# EAGLE library part LTC1923EUH#PBF (library LTC1923EUH_PBF Cooler)
Check availability <https://pricing.snapeda.com/parts/LTC1923EUH%23PBF/Analog%20Devices/view-part?ref=eda>
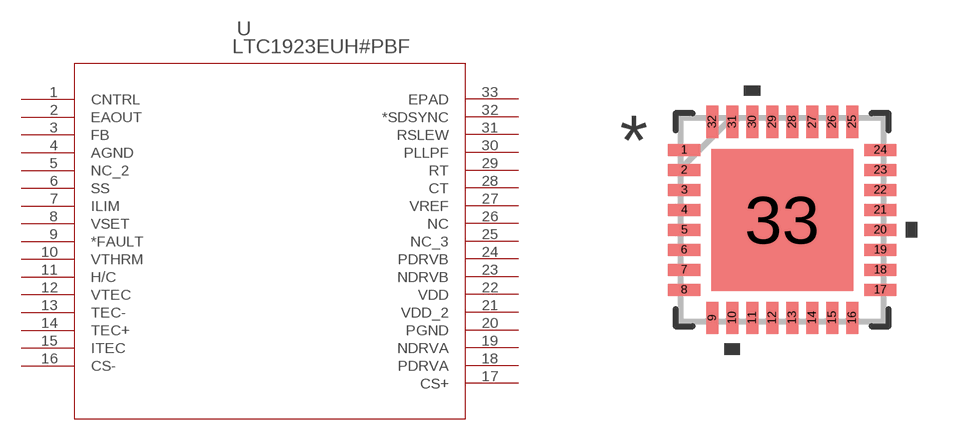
[diagram p0: symbol with the pads of QFN-32_UH; footprint QFN-32_UH]

Designator prefix U

## LTC1923EUH#PBF (Availability: In Stock; Check_prices: https://www.snapeda.com/parts/LTC1923EUH%23PBF/Analog+Devices/view-part/?ref=eda; Description: The LTC1923 is a pulse width modulator intended for thermoelectric cooler (TEC) or heater applications requiring either unidirectional or bidirectional drive circuits. All of the necessary control circuitry and two sets of complementary output drivers are integrated into the LTC1923 to drive a full bridge, providing an efficient means of bidirectional current flow to the TEC. An accurate temperature control loop to stabilize the temperature of a laser diode system is easily achieved with the addition of just a few external components. Typical temperature setpoint accuracy of 0.1°C is achievable with the LTC1923. Adding an instrumentation amplifier front end allows setpoint stability of 0.01°C. The part features independent adjustable heating and cooling pulse-by-pulse current limit, current soft-start for controlled start-up, output slew rate control to reduce system noise, differential current sense and voltage amplifiers and a host of auxiliary circuits to protect the laser and provide redundant system monitoring. Applications Laser-Based Fiber Optic Links Medical Instruments CPU Temperature Regulators; MF: Analog Devices; MP: LTC1923EUH#PBF; Package: WFQFN-32 Linear Technology; Price: None; SnapEDA_Link: https://www.snapeda.com/parts/LTC1923EUH%23PBF/Analog+Devices/view-part/?ref=snap)  [QFN-32_UH]
1  CNTRL  in
2  EAOUT  out
3  FB  in
4  AGND  pwr
5  NC_2  nc
6  SS  pas
7  ILIM  pas
8  VSET  in
9  *FAULT  out
10  VTHRM  pas
11  H/C  out
12  VTEC  out
13  TEC-  in
14  TEC+  in
15  ITEC  out
16  CS-  in
17  CS+  in
18  PDRVA  out
19  NDRVA  out
20  PGND  pwr
21  VDD_2  pwr
22  VDD  pwr
23  NDRVB  out
24  PDRVB  out
25  NC_3  nc
26  NC  nc
27  VREF  out
28  CT  pas
29  RT  pas
30  PLLPF  pas
31  RSLEW  out
32  *SDSYNC  pas
33  EPAD  pas

## Footprint QFN-32_UH (pad centres in mm)
smd 0.805 x 0.3: 1 -2.452,1.75; 2 -2.452,1.25; 3 -2.452,0.75; 4 -2.452,0.25; 5 -2.452,-0.25; 6 -2.452,-0.75; 7 -2.452,-1.25; 8 -2.452,-1.75; 17 2.452,-1.75; 18 2.452,-1.25; 19 2.452,-0.75; 20 2.452,-0.25; 21 2.452,0.25; 22 2.452,0.75; 23 2.452,1.25; 24 2.452,1.75
smd 0.3 x 0.805: 9 -1.75,-2.452; 10 -1.25,-2.452; 11 -0.75,-2.452; 12 -0.25,-2.452; 13 0.25,-2.452; 14 0.75,-2.452; 15 1.25,-2.452; 16 1.75,-2.452; 25 1.75,2.452; 26 1.25,2.452; 27 0.75,2.452; 28 0.25,2.452; 29 -0.25,2.452; 30 -0.75,2.452; 31 -1.25,2.452; 32 -1.75,2.452
smd 3.55 x 3.55: 33 0,0